# EAGLE library part ATSAME51J20A-AU (library ATSAME51J20A-AU)
IC MCU 32BIT 512KB FLASH 64LQFP
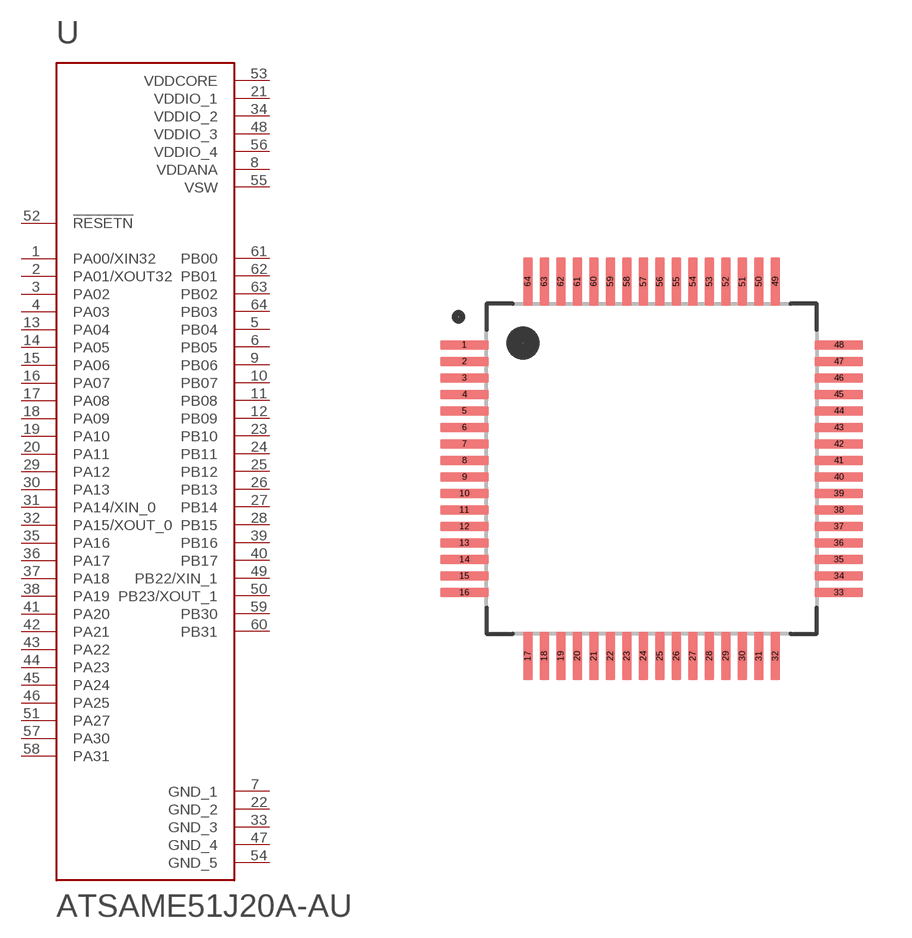
[diagram p0: symbol with the pads of QFP50P1200X1200X120-64N; footprint QFP50P1200X1200X120-64N]

Designator prefix U

## ATSAME51J20A-AU (Availability: Good; Description: MCU 32-bit ARM Cortex M4F RISC 1024KB Flash 3.3V 64-Pin TQFP Tray; MF: Microchip; MP: ATSAME51J20A-AU; Package: TQFP-64 Microchip; Price: 5.17 USD)  [QFP50P1200X1200X120-64N]
1  PA00/XIN32
2  PA01/XOUT32
3  PA02
4  PA03
5  PB04
6  PB05
7  GND_1  pwr
8  VDDANA  pwr
9  PB06
10  PB07
11  PB08
12  PB09
13  PA04
14  PA05
15  PA06
16  PA07
17  PA08
18  PA09
19  PA10
20  PA11
21  VDDIO_1  pwr
22  GND_2  pwr
23  PB10
24  PB11
25  PB12
26  PB13
27  PB14
28  PB15
29  PA12
30  PA13
31  PA14/XIN_0
32  PA15/XOUT_0
33  GND_3  pwr
34  VDDIO_2  pwr
35  PA16
36  PA17
37  PA18
38  PA19
39  PB16
40  PB17
41  PA20
42  PA21
43  PA22
44  PA23
45  PA24
46  PA25
47  GND_4  pwr
48  VDDIO_3  pwr
49  PB22/XIN_1
50  PB23/XOUT_1
51  PA27
52  !RESETN  in
53  VDDCORE  pwr
54  GND_5  pwr
55  VSW  pwr
56  VDDIO_4  pwr
57  PA30
58  PA31
59  PB30
60  PB31
61  PB00
62  PB01
63  PB02
64  PB03

## Footprint QFP50P1200X1200X120-64N (pad centres in mm)
smd 1.47 x 0.28: 1 -5.67,3.75; 2 -5.67,3.25; 3 -5.67,2.75; 4 -5.67,2.25; 5 -5.67,1.75; 6 -5.67,1.25; 7 -5.67,0.75; 8 -5.67,0.25; 9 -5.67,-0.25; 10 -5.67,-0.75; 11 -5.67,-1.25; 12 -5.67,-1.75; 13 -5.67,-2.25; 14 -5.67,-2.75; 15 -5.67,-3.25; 16 -5.67,-3.75; 33 5.67,-3.75; 34 5.67,-3.25; 35 5.67,-2.75; 36 5.67,-2.25; 37 5.67,-1.75; 38 5.67,-1.25; 39 5.67,-0.75; 40 5.67,-0.25; 41 5.67,0.25; 42 5.67,0.75; 43 5.67,1.25; 44 5.67,1.75; 45 5.67,2.25; 46 5.67,2.75; 47 5.67,3.25; 48 5.67,3.75
smd 0.28 x 1.47: 17 -3.75,-5.67; 18 -3.25,-5.67; 19 -2.75,-5.67; 20 -2.25,-5.67; 21 -1.75,-5.67; 22 -1.25,-5.67; 23 -0.75,-5.67; 24 -0.25,-5.67; 25 0.25,-5.67; 26 0.75,-5.67; 27 1.25,-5.67; 28 1.75,-5.67; 29 2.25,-5.67; 30 2.75,-5.67; 31 3.25,-5.67; 32 3.75,-5.67; 49 3.75,5.67; 50 3.25,5.67; 51 2.75,5.67; 52 2.25,5.67; 53 1.75,5.67; 54 1.25,5.67; 55 0.75,5.67; 56 0.25,5.67; 57 -0.25,5.67; 58 -0.75,5.67; 59 -1.25,5.67; 60 -1.75,5.67; 61 -2.25,5.67; 62 -2.75,5.67; 63 -3.25,5.67; 64 -3.75,5.67